# Altium footprint library BraaiBuddyPCB_Schematic_Lib.PcbLib: 29 footprints (part 1 of 2)
Each footprint in its own frame and in the unit in brackets; x right, y up, seen from the top. Pads: shape width x height; smd on the part's side, far side on the other; paste and mask are expansions set on the pad; w line width, h text height; cw(c..) or ccw(c..) is an arc to the next point about the centre after c.
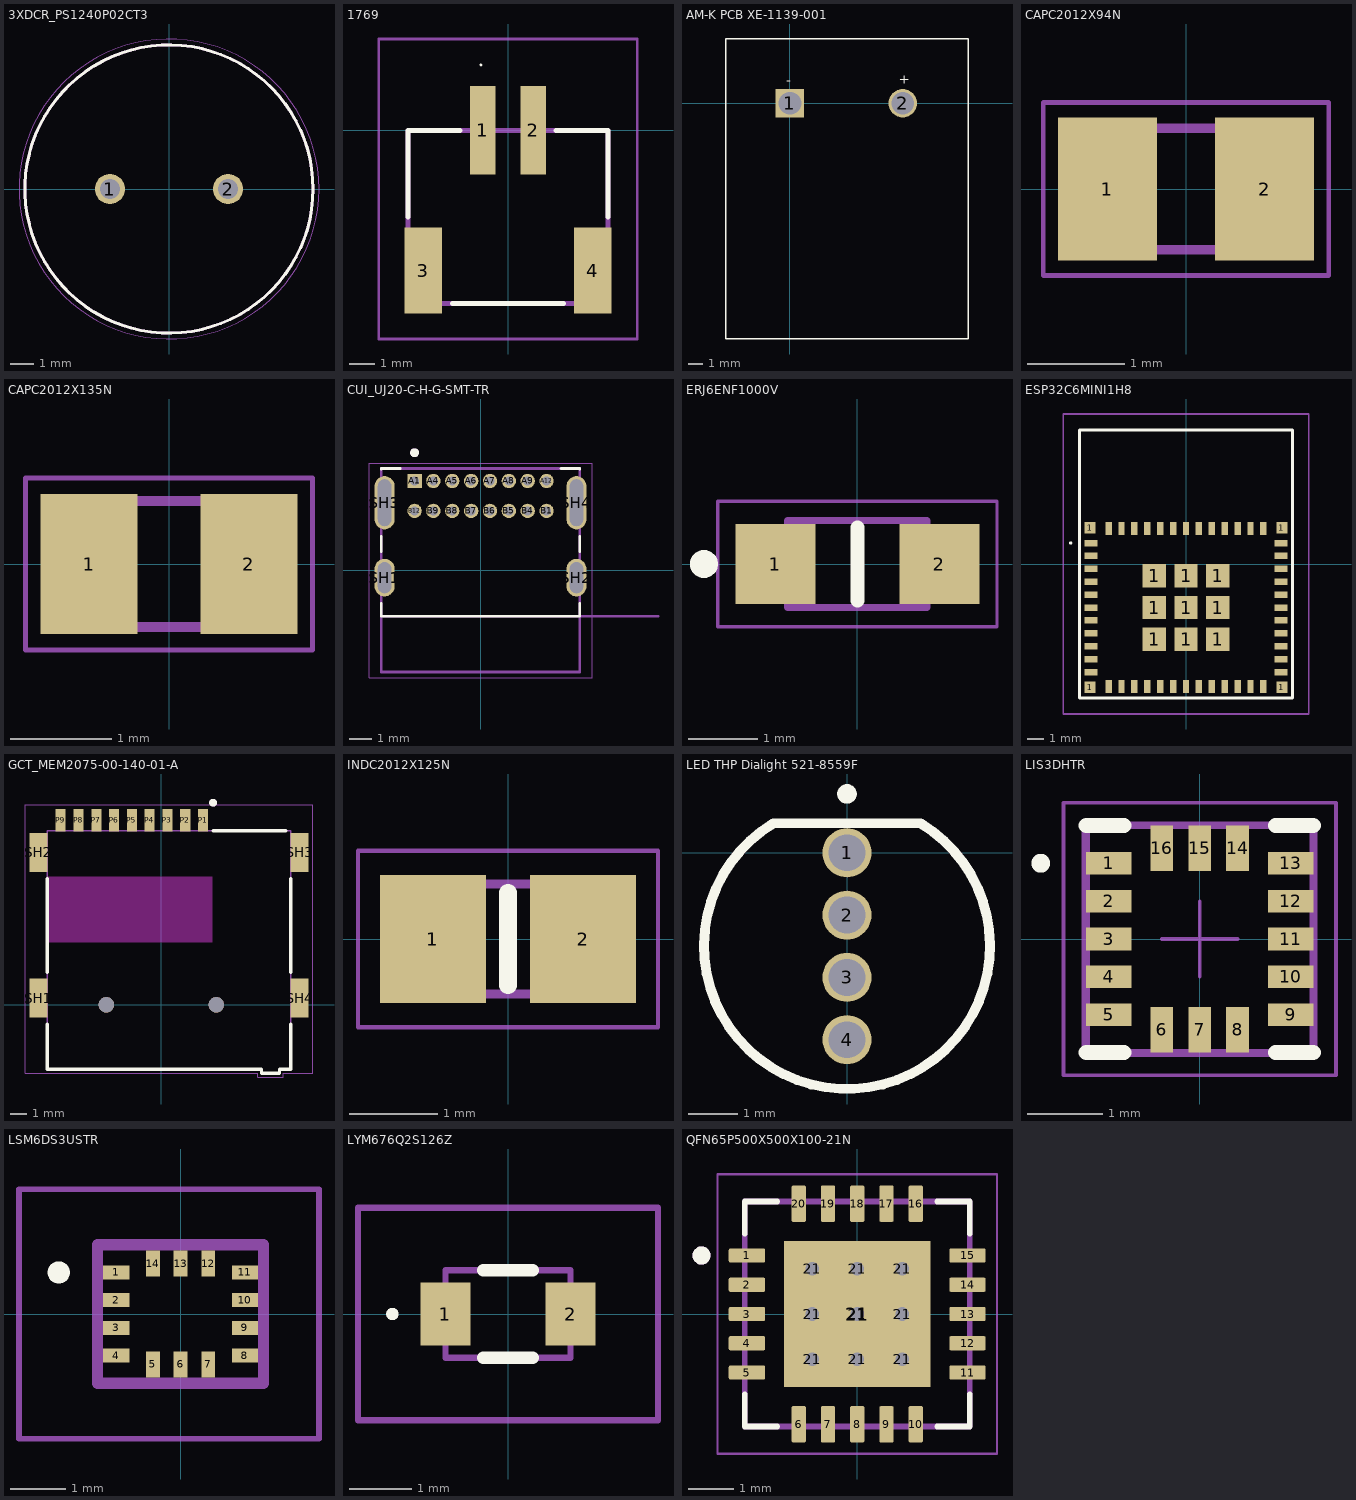
[diagram p0: the footprints below, top view; thin cyan lines are the x and y axes]

## 3XDCR_PS1240P02CT3 [mm]
pads (2):
  round 1.28 hole 0.85: 1(-2.5,0) 2(2.5,0)
Top Overlay:
  circle w0.127: c0,0 r6.1
Mechanical 13:
  circle w0.127: c0,0 r6.1
Mechanical 15:
  circle w0.05: c0,0 r6.35
3D body: height 3.5, standoff 0, extent -6.066,-6.087 6.134,6.113

## 1769 [mm]
pads (4):
  rect 1x3.5 smd: 1(-1,0) 2(1,0)
  rect 1.5x3.4 smd: 3(-3.35,-5.55) 4(3.35,-5.55)
Top Overlay:
  lines w0.052: -1.095,2.582 ccw(c-1.069,2.582) -1.043,2.582 ccw(c-1.069,2.582) -1.095,2.582
  lines w0.2: -3.95,-3.425 -3.95,0 -1.9,0 ; -2.196,-6.849 2.196,-6.849 ; 1.9,0 3.95,0 3.95,-3.425
Mechanical 13:
  lines w0.2: -3.95,-6.849 3.95,-6.849 3.95,0 -3.95,0 -3.95,-6.849
Mechanical 15:
  lines w0.1: -5.1,-8.25 5.1,-8.25 5.1,3.608 -5.1,3.608 -5.1,-8.25
3D body "1769.stp": height 4.8, standoff 0, extent -3.95,-7.07 3.95,1.53

## AM-K PCB XE-1139-001 [mm]
height 5.59
pads (2):
  rect 2x2 hole 1.6: 1(0,0)
  round 2 hole 1.6: 2(7.9,0)
Top Overlay:
  lines w0.1: -4.5,-16.5 12.5,-16.5 12.5,4.5 -4.5,4.5 -4.5,-16.5
  text "+" at 7.614,1.367 h0.7
  text "-" at -0.235,1.28 h0.7
3D body "AM-K-PCB.step": height 8, standoff -4.85, extent -4.4,-16.258 12.2,4.25

## CAPC2012X94N [mm]
pads (2):
  rect 1.02x1.47 smd: 1(-0.81,0) 2(0.81,0)
Mechanical 13:
  lines w0.1: -1.005,-0.625 -1.005,0.625 1.005,0.625 1.005,-0.625 -1.005,-0.625
Mechanical 15:
  lines w0.05: -1.47,-0.89 -1.47,0.89 1.47,0.89 1.47,-0.89 -1.47,-0.89
3D body "08055C104KAZ2A.stp": height 0.94, standoff 0, extent -1.005,-0.625 1.005,0.625

## CAPC2012X135N [mm]
pads (2):
  rect 0.96x1.39 smd: 1(-0.79,0) 2(0.79,0)
Mechanical 13:
  lines w0.1: -1,-0.625 1,-0.625 1,0.625 -1,0.625 -1,-0.625
Mechanical 15:
  lines w0.05: -1.42,-0.85 1.42,-0.85 1.42,0.85 -1.42,0.85 -1.42,-0.85
3D body "LMK212BJ225MG-T.stp": height 1.35, standoff 0, extent -1,-0.625 1,0.625

## CUI_UJ20-C-H-G-SMT-TR [mm]
height 3.66
pads (20):
  rect 0.65x0.65 / inner round 0.65 / far side rect 0.65x0.65 hole 0.4: A1(-2.975,4.025)
  round 0.65 hole 0.4: A4(-2.125,4.025) A5(-1.275,4.025) A6(-0.425,4.025) A7(0.425,4.025) A8(1.275,4.025) A9(2.125,4.025) A12(2.975,4.025) B1(2.975,2.675) B4(2.125,2.675) B5(1.275,2.675) B6(0.425,2.675) B7(-0.425,2.675) B8(-1.275,2.675) B9(-2.125,2.675) B12(-2.975,2.675)
  oval 0.9x1.7 hole 0.6 slot 1.4 at 90 deg: SH1(-4.325,-0.335) SH2(4.325,-0.335)
  oval 0.9x2.4 hole 0.6 slot 2.1 at 90 deg: SH3(-4.325,3.045) SH4(4.325,3.045)
Top Overlay:
  circle w0.2: c-2.975,5.3 r0.1
  lines w0.127: -4.475,-1.505 -4.475,-2.075 4.475,-2.075 4.475,-1.505 ; -4.475,0.835 -4.475,1.525 ; -4.475,4.565 -4.475,4.585 -3.62,4.585 ; 3.62,4.585 4.475,4.585 4.475,4.565 ; 4.475,0.835 4.475,1.525
Mechanical 13:
  circle w0.2: c-2.975,5.3 r0.1
  lines w0.127: 8,-2.075 -4.475,-2.075 ; -4.475,-2.075 -4.475,4.585 4.475,4.585 4.475,-4.585 -4.475,-4.585 -4.475,-2.075
  text "PCB EDGE" at 5.5,-1.9 h0.81
Mechanical 15:
  lines w0.05: -5.025,-4.835 5.025,-4.835 5.025,4.835 -5.025,4.835 -5.025,-4.835
3D body "Same_Sky_UJ20-C-H-G-SMT-TR.x_t": height 3.46, standoff -2.1, extent -4.515,-4.57 4.515,4.6

## ERJ6ENF1000V [mm]
pads (2):
  rect 1.15x1.15 smd: 1(-1.175,0) 2(1.175,0)
Top Overlay:
  lines w0.2: 0,-0.525 0,0.525 ; -2.2,-0.1 ccw(c-2.2,0) -2.2,0.1 ccw(c-2.2,0) -2.2,-0.1
Mechanical 13:
  lines w0.1: -1,-0.625 -1,0.625 1,0.625 1,-0.625 -1,-0.625
Mechanical 15:
  lines w0.05: -2,-0.9 -2,0.9 2,0.9 2,-0.9 -2,-0.9
3D body "ERJ-6ENF3573V.stp": height 0.6, standoff 0, extent -1,-0.625 1,0.625

## ESP32C6MINI1H8 [mm]
pads (61):
  rect 0.7x0.7 smd: 1(-5.95,-7.65) 1(-5.95,2.25) 1(5.95,-7.65) 1(5.95,2.25)
  rect 0.8x0.4 smd: 1(-5.9,-6.7) 1(-5.9,0.5) 1(-5.9,1.3) 3(-5.9,-0.3) 4(-5.9,-1.1) 5(-5.9,-1.9) 6(-5.9,-2.7) 7(-5.9,-3.5) 8(-5.9,-4.3) 9(-5.9,-5.1) 10(-5.9,-5.9) 25(5.9,-6.7) 26(5.9,-5.9) 27(5.9,-5.1) 28(5.9,-4.3) 29(5.9,-3.5) 30(5.9,-2.7) 31(5.9,-1.9) 32(5.9,-1.1) 33(5.9,-0.3) 34(5.9,0.5) 35(5.9,1.3)
  rect 0.4x0.8 smd: 1(-4.8,2.2) 1(-4,2.2) 1(-3.2,-7.6) 1(-3.2,2.2) 1(-2.4,2.2) 1(-1.6,2.2) 1(-0.8,2.2) 1(0,2.2) 1(0.8,2.2) 1(1.6,2.2) 1(2.4,2.2) 1(3.2,2.2) 1(4,2.2) 1(4.8,2.2) 12(-4.8,-7.6) 13(-4,-7.6) 15(-2.4,-7.6) 16(-1.6,-7.6) 17(-0.8,-7.6) 18(0,-7.6) 19(0.8,-7.6) 20(1.6,-7.6) 21(2.4,-7.6) 22(3.2,-7.6) 23(4,-7.6) 24(4.8,-7.6)
  rect 1.45x1.45 smd: 1(-1.975,-4.675) 1(-1.975,-2.7) 1(-1.975,-0.725) 1(0,-4.675) 1(0,-2.7) 1(0,-0.725) 1(1.975,-4.675) 1(1.975,-2.7) 1(1.975,-0.725)
Top Overlay:
  lines w0.1: -7.2,1.3 cw(c-7.15,1.3) -7.1,1.3 cw(c-7.15,1.3) -7.2,1.3
  lines w0.2: -6.6,-8.3 6.6,-8.3 6.6,8.3 -6.6,8.3 -6.6,-8.3
Mechanical 13:
  lines w0.1: -6.6,-8.3 6.6,-8.3 6.6,8.3 -6.6,8.3 -6.6,-8.3
Mechanical 15:
  lines w0.1: -7.6,-9.3 7.6,-9.3 7.6,9.3 -7.6,9.3 -7.6,-9.3
3D body "ESP32-C6-MINI-1-H8.stp": height 2.55, standoff 0, extent -6.6,-8.3 6.6,8.3

## GCT_MEM2075-00-140-01-A [mm]
pads (15):
  rect 0.62x1.4 smd: P1(2.58,11.42) P2(1.48,11.42) P3(0.38,11.42) P4(-0.72,11.42) P5(-1.82,11.42) P6(-2.92,11.42) P7(-4.02,11.42) P8(-5.12,11.42) P9(-6.22,11.42)
  rect 1.1x2.4 smd: SH1(-7.6,0.42) SH2(-7.6,9.42) SH3(8.55,9.42) SH4(8.55,0.42)
  round 0.95 hole 0.95 unplated: ""(-3.4,0) ""(3.4,0)
Top Overlay:
  circle w0.24: c3.2,12.5 r0.12
  lines w0.2: -7.05,-1.2 -7.05,-3.98 6.2,-3.98 6.2,-4.23 7.3,-4.23 7.3,-3.98 8,-3.98 8,-1.2 ; -7.05,2 -7.05,7.8 ; 3.2,10.77 7.7,10.77 ; 8,2 8,7.8
Keep-Out Layer:
  region: 3.15,3.87 -7.05,3.87 -7.05,7.92 3.15,7.92
Mechanical 13:
  circle w0.24: c3.2,12.5 r0.12
  lines w0.1: -7.05,-3.98 6.2,-3.98 6.2,-4.23 7.3,-4.23 7.3,-3.98 8,-3.98 8,10.77 -7.05,10.77 -7.05,-3.98
Mechanical 15:
  lines w0.05: -8.4,-4.23 -8.4,12.37 9.35,12.37 9.35,-4.23 7.55,-4.23 7.55,-4.48 5.95,-4.48 5.95,-4.23 -8.4,-4.23
3D body "step_temp.STEP": height 1.45, standoff -0.6, extent -7.74,-4.25 8.7,11.6

## INDC2012X125N [mm]
pads (2):
  rect 1.2x1.45 smd: 1(-0.85,0) 2(0.85,0)
Top Overlay:
  lines w0.2: 0,-0.525 0,0.525
Mechanical 13:
  lines w0.1: -1,-0.625 -1,0.625 1,0.625 1,-0.625 -1,-0.625
Mechanical 15:
  lines w0.05: -1.7,-1 -1.7,1 1.7,1 1.7,-1 -1.7,-1
3D body "CV201210-330K.stp": height 1.25, standoff 0, extent -1,-0.625 1,0.625

## LED THP Dialight 521-8559F [mm]
pads (4):
  round 1 hole 0.75 paste-2539.97 mask+0: 1(0,0) 2(0,-1.27) 3(0,-2.54) 4(0,-3.81)
Top Overlay:
  circle w0.2: c0,1.2 r0.1
  lines w0.2: -1.5,0.6 ccw(c0,-1.9) 1.5,0.6 -1.5,0.6
3D body "RGB LED 8MM.step": height 19.26, standoff -6.49, extent -0.253,-6.404 17.347,2.141

## LIS3DHTR [mm]
pads (16):
  rect 0.6x0.3 smd: 1(-1.2,1) 2(-1.2,0.5) 3(-1.2,0) 4(-1.2,-0.5) 5(-1.2,-1) 9(1.2,-1) 10(1.2,-0.5) 11(1.2,0) 12(1.2,0.5) 13(1.2,1)
  rect 0.3x0.6 smd: 6(-0.5,-1.2) 7(0,-1.2) 8(0.5,-1.2) 14(0.5,1.2) 15(0,1.2) 16(-0.5,1.2)
Top Overlay:
  lines w0.125: -2.163,1.001 cw(c-2.101,1.001) -2.038,1.001 cw(c-2.101,1.001) -2.163,1.001
  lines w0.2: -1.5,-1.5 -1,-1.5 ; -1.5,1.5 -1,1.5 ; 1,-1.5 1.5,-1.5 ; 1,1.5 1.5,1.5
Mechanical 13:
  lines w0.1: -1.5,-1.5 -1.5,1.5 1.5,1.5 1.5,-1.5 -1.5,-1.5
Mechanical 15:
  lines w0.001: -1.55,-1.55 -1.55,1.55 1.55,1.55 1.55,-1.55 -1.55,-1.55
  lines w0.05: -0.5,0 0.5,0 ; 0,-0.5 0,0.5 ; -1.8,-1.8 -1.8,1.8 1.8,1.8 1.8,-1.8 -1.8,-1.8
3D body "LIS3DHTR.stp": height 1, standoff 0, extent -1.5,-1.5 1.5,1.5

## LSM6DS3USTR [mm]
pads (14):
  rect 0.475x0.25 smd: 1(-1.163,0.75) 2(-1.163,0.25) 3(-1.163,-0.25) 4(-1.163,-0.75) 8(1.163,-0.75) 9(1.163,-0.25) 10(1.163,0.25) 11(1.163,0.75)
  rect 0.25x0.475 smd: 5(-0.5,-0.912) 6(0,-0.912) 7(0.5,-0.912) 12(0.5,0.912) 13(0,0.912) 14(-0.5,0.912)
Top Overlay:
  lines w0.2: -2.2,0.65 ccw(c-2.2,0.75) -2.2,0.85 ccw(c-2.2,0.75) -2.2,0.65
Mechanical 13:
  lines w0.2: -1.5,-1.25 -1.5,1.25 1.5,1.25 1.5,-1.25 -1.5,-1.25
Mechanical 15:
  lines w0.1: -2.918,-2.25 -2.918,2.25 2.5,2.25 2.5,-2.25 -2.918,-2.25
3D body "LSM6DS3TR-C.stp": height 0.86, standoff 0, extent -1.5,-1.25 1.5,1.25

## LYM676Q2S126Z [mm]
pads (2):
  rect 0.8x1 smd: 1(-1,0) 2(1,0)
Top Overlay:
  lines w0.1: -1.9,0 cw(c-1.85,0) -1.8,0 cw(c-1.85,0) -1.9,0
  lines w0.2: -0.4,-0.7 0.4,-0.7 ; -0.4,0.7 0.4,0.7
Mechanical 13:
  lines w0.1: -1,-0.7 1,-0.7 1,0.7 -1,0.7 -1,-0.7
Mechanical 15:
  lines w0.1: -2.4,-1.7 2.4,-1.7 2.4,1.7 -2.4,1.7 -2.4,-1.7
3D body "LY_M676-Q2S1-26-Z.stp": height 1.5, standoff 0, extent -1,-0.7 1,0.7

## PCBComponent_1 [mm]

## QFN65P500X500X100-21N [mm]
pads (30):
  rrect25% 0.81x0.32 smd: 1(-2.45,1.3) 2(-2.45,0.65) 3(-2.45,0) 4(-2.45,-0.65) 5(-2.45,-1.3) 11(2.45,-1.3) 12(2.45,-0.65) 13(2.45,0) 14(2.45,0.65) 15(2.45,1.3)
  rrect25% 0.32x0.81 smd: 6(-1.3,-2.45) 7(-0.65,-2.45) 8(0,-2.45) 9(0.65,-2.45) 10(1.3,-2.45) 16(1.3,2.45) 17(0.65,2.45) 18(0,2.45) 19(-0.65,2.45) 20(-1.3,2.45)
  round 0.5 hole 0.3: 21(-1,-1) 21(-1,0) 21(-1,1) 21(0,-1) 21(0,0) 21(0,1) 21(1,-1) 21(1,0) 21(1,1)
  rect 3.25x3.25 smd paste-3: 21(0,0)
Top Overlay:
  circle w0.2: c-3.46,1.3 r0.1
  lines w0.127: -2.5,-1.78 -2.5,-2.5 -1.78,-2.5 ; -2.5,1.78 -2.5,2.5 -1.78,2.5 ; 1.78,-2.5 2.5,-2.5 2.5,-1.78 ; 1.78,2.5 2.5,2.5 2.5,1.78
Top Paste:
  region: 1.15,-1.15 -1.15,-1.15 -1.15,1.15 1.15,1.15
Mechanical 13:
  circle w0.2: c-3.46,1.3 r0.1
  lines w0.127: -2.5,-2.5 -2.5,2.5 2.5,2.5 2.5,-2.5 -2.5,-2.5
Mechanical 15:
  lines w0.05: -3.105,-3.105 -3.105,3.105 3.105,3.105 3.105,-3.105 -3.105,-3.105
3D body "MCP9600-E_MX.stp": height 1, standoff 0, extent -2.55,-2.55 2.55,2.55